# Altium footprint library 685119136923.pcblib: 1 footprints
Each footprint in its own frame and in the unit in brackets; x right, y up, seen from the top. Pads: shape width x height; smd on the part's side, far side on the other; paste and mask are expansions set on the pad; w line width, h text height; cw(c..) or ccw(c..) is an arc to the next point about the centre after c.
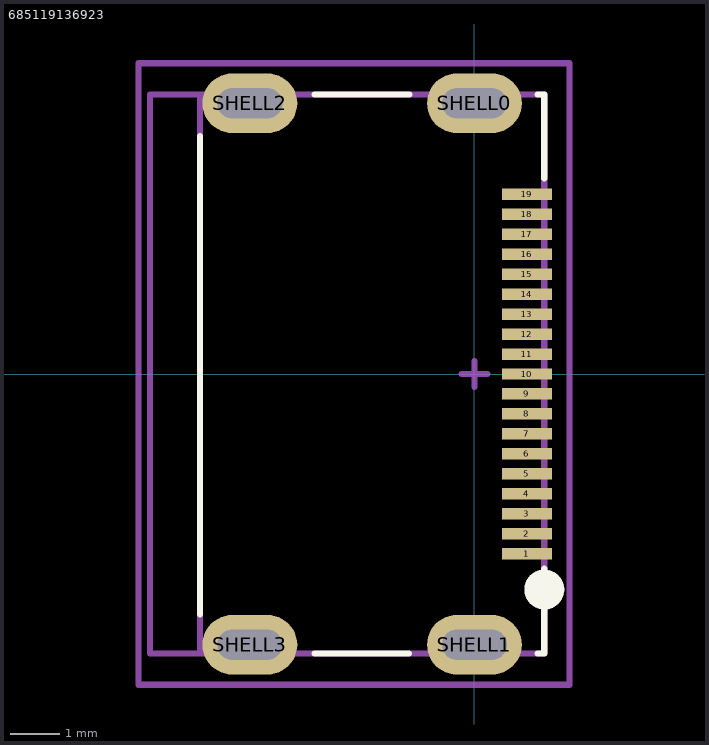
[diagram p0: the footprint, top view; thin cyan lines are the x and y axes]

## 685119136923 [mm]
pads (23):
  rect 1x0.23 smd: 1(1.05,-3.6) 2(1.05,-3.2) 3(1.05,-2.8) 4(1.05,-2.4) 5(1.05,-2) 6(1.05,-1.6) 7(1.05,-1.2) 8(1.05,-0.8) 9(1.05,-0.4) 10(1.05,0) 11(1.05,0.4) 12(1.05,0.8) 13(1.05,1.2) 14(1.05,1.6) 15(1.05,2) 16(1.05,2.4) 17(1.05,2.8) 18(1.05,3.2) 19(1.05,3.6)
  oval 1.9x1.2 hole 0.6 slot 1.3 at 0 deg: SHELL0(0,5.425) SHELL1(0,-5.425) SHELL2(-4.5,5.425) SHELL3(-4.5,-5.425)
Top Overlay:
  circle w0.4: c1.4,-4.318 r0.2
  lines w0.127: -5.5,-4.82 -5.5,4.77 ; -3.2,-5.6 -1.31,-5.6 ; -3.2,5.6 -1.3,5.6 ; 1.27,-5.6 1.4,-5.6 1.4,-3.9 ; 1.27,5.6 1.4,5.6 1.4,3.92
Mechanical 1:
  lines w0.127: -5.051,-5.264 -5.05,-5.607 ccw(c-4.927,-5.601) -4.921,-5.724 ; -5.051,-5.254 cw(c-4.928,-5.248) -4.935,-5.125 ; -5.051,5.586 -5.05,5.243 ccw(c-4.927,5.249) -4.921,5.126 ; -5.051,5.596 cw(c-4.928,5.602) -4.935,5.725 ; -4.922,-5.725 -4.067,-5.725 ccw(c-4.073,-5.602) -3.95,-5.596 -3.95,-5.322 ; -4.922,5.125 -4.067,5.125 ccw(c-4.073,5.248) -3.95,5.254 -3.95,5.528 ; -4.916,-5.124 -4.883,-5.124 ; -4.916,5.726 -4.883,5.726 ; -4.879,-5.125 -4.076,-5.125 ; -4.879,5.725 -4.076,5.725 ; -4.076,-5.125 cw(c-4.07,-5.248) -3.947,-5.242 ; -4.076,5.725 cw(c-4.07,5.602) -3.947,5.608 -3.951,5.532 ; -3.951,-5.318 -3.947,-5.242 ; -0.39,-5.725 0.491,-5.725 ccw(c0.491,-5.565) 0.651,-5.565 ; -0.39,5.125 0.491,5.125 ccw(c0.491,5.285) 0.651,5.285 ; -0.387,-5.724 cw(c-0.387,-5.564) -0.547,-5.564 -0.55,-5.285 cw(c-0.39,-5.285) -0.39,-5.125 0.491,-5.125 cw(c0.491,-5.285) 0.651,-5.285 ; -0.387,5.126 cw(c-0.387,5.286) -0.547,5.286 -0.55,5.565 cw(c-0.39,5.565) -0.39,5.725 0.491,5.725 cw(c0.491,5.565) 0.651,5.565 ; 0.652,-5.547 0.652,-5.268 cw(c0.654,-5.268) 0.654,-5.266 ; 0.652,5.303 0.652,5.582 cw(c0.654,5.582) 0.654,5.584
Mechanical 4:
  lines w0.127: -5.5,-5.6 -5.5,5.6 ; -5.5,-5.6 1.4,-5.6 1.4,5.6 -5.5,5.6 ; -5.5,-5.6 -6.5,-5.6 -6.5,5.6 -5.5,5.6
Mechanical 13:
  lines w0.051: -6.5,-5.625 1.397,-5.625 1.397,5.625 -6.5,5.625 -6.5,-5.625
Mechanical 15:
  lines w0.127: -0.254,0 0.254,0 ; 0,-0.254 0,0.254 ; -6.731,-6.223 -6.731,6.223 1.905,6.223 1.905,-6.223 -6.731,-6.223
3D body "685119136923 (rev1).stp": height 3.3, standoff -2.15, extent -6.5,-5.625 1.402,5.625